# EAGLE library part CTX410809-R (library bodger)
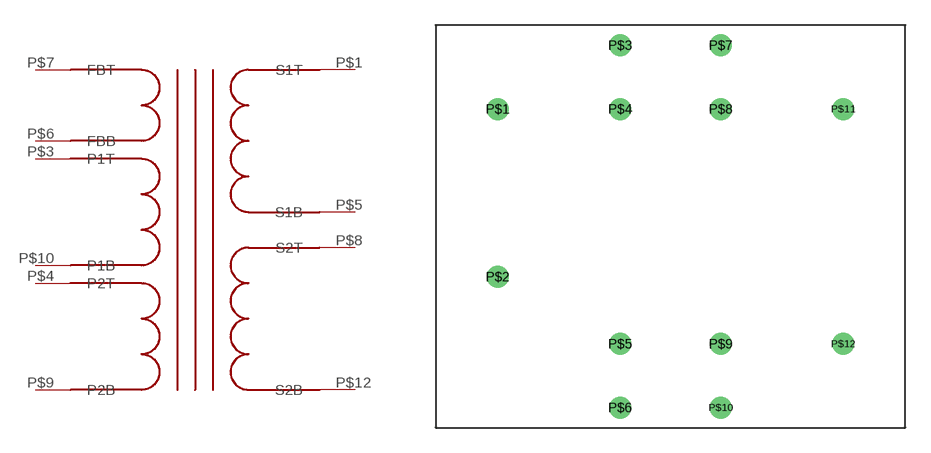
[diagram p53: symbol with the pads of COOPER-CCFL-14W; footprint COOPER-CCFL-14W]

Designator prefix -

## CTX410809-R  [COOPER-CCFL-14W]
P$1  S1T  out
P$3  P1T  in
P$4  P2T  pwr
P$5  S1B  out
P$6  FBB  out
P$7  FBT  out
P$8  S2T  out
P$9  P2B  in
P$10  P1B  pwr
P$12  S2B  out

## Footprint COOPER-CCFL-14W (pad centres in mm)
drill 0.8: P$1 -10.3,7; P$2 -10.3,-3; P$3 -3,10.8; P$4 -3,7; P$5 -3,-7; P$6 -3,-10.8; P$7 3,10.8; P$8 3,7; P$9 3,-7; P$10 3,-10.8; P$11 10.3,7; P$12 10.3,-7